# Altium footprint library jumper.PCBLIB: 40 footprints (part 2 of 3)
Each footprint in its own frame and in the unit in brackets; x right, y up, seen from the top. Pads: shape width x height; smd on the part's side, far side on the other; paste and mask are expansions set on the pad; w line width, h text height; cw(c..) or ccw(c..) is an arc to the next point about the centre after c.
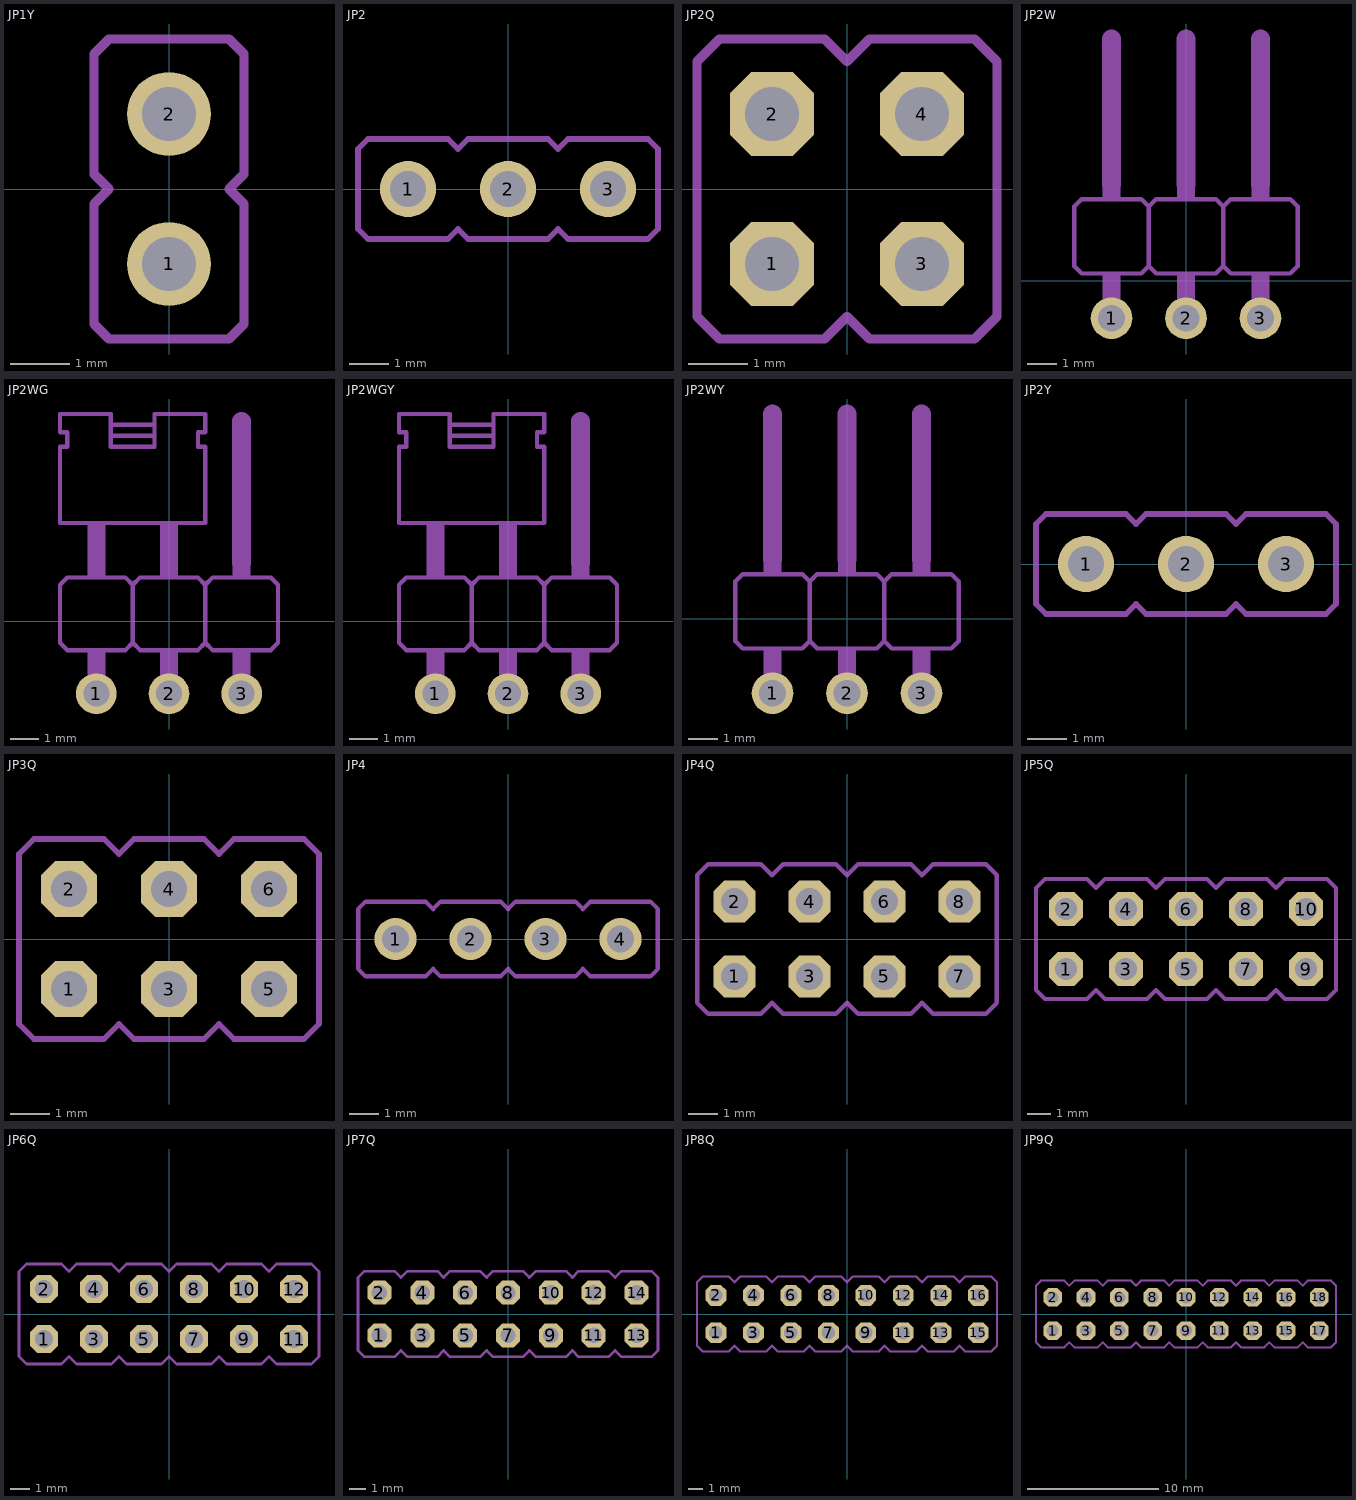
[diagram p1: the footprints below, top view; thin cyan lines are the x and y axes]

## JP1Y [mil]
pads (2):
  round 56 hole 36: 1(0,-50) 2(0,50)
tDocu:
  region: -12,38 -12,62 12,62 12,38
  region: -12,-62 -12,-38 12,-38 12,-62
  lines w6: -50,-80 -50,-20 ; -50,20 -50,80 ; 50,-80 50,-20 ; 50,20 50,80
tPlace:
  lines w6: -50,-80 -50,-90 -40,-100 40,-100 50,-90 50,-80 ; -50,-20 -50,-10 -40,0 -50,10 -50,20 ; -50,80 -50,90 -40,100 40,100 50,90 50,80 ; 50,-20 50,-10 40,0 50,10 50,20

## JP2 [mil]
pads (3):
  round 56 hole 36: 1(-100,0) 2(0,0) 3(100,0)
tDocu:
  region: -112,-12 -112,12 -88,12 -88,-12
  region: -12,-12 -12,12 12,12 12,-12
  region: 88,-12 88,12 112,12 112,-12
tPlace:
  lines w6: -150,-40 -150,40 -140,50 -60,50 -50,40 -40,50 40,50 50,40 60,50 140,50 150,40 150,-40 140,-50 60,-50 50,-40 40,-50 -40,-50 -50,-40 -60,-50 -140,-50 -150,-40
  text "1" at -100,-105 h60.45
  text "2" at 0,-105 h60.45
  text "3" at 100,-105 h60.45

## JP2Q [mil]
pads (4):
  oct 56x56 / inner round 51.74 / far side oct 56x56 hole 36: 1(-50,-50) 2(-50,50) 3(50,-50) 4(50,50)
tDocu:
  region: -62,38 -62,62 -38,62 -38,38
  region: 38,38 38,62 62,62 62,38
  region: 38,-62 38,-38 62,-38 62,-62
  region: -62,-62 -62,-38 -38,-38 -38,-62
tPlace:
  lines w6: -100,-85 -100,85 -85,100 -15,100 0,85 15,100 85,100 100,85 100,-85 85,-100 15,-100 0,-85 -15,-100 -85,-100 -100,-85
  text "1" at -70,-165 h77.5
  text "2" at 30,-165 h77.5

## JP2W [mil]
pads (3):
  round 56 hole 36: 1(-100,-50) 2(0,-50) 3(100,-50)
tDocu:
  region: 88,-60 88,-10 112,-10 112,-60
  region: -12,-60 -12,-10 12,-10 12,-60
  region: -112,-60 -112,-10 -88,-10 -88,-60
tPlace:
  region: 88,110 88,130 112,130 112,110
  region: 88,-10 88,10 112,10 112,-10
  region: -12,-10 -12,10 12,10 12,-10
  region: -112,-10 -112,10 -88,10 -88,-10
  region: -12,110 -12,130 12,130 12,110
  region: -112,110 -112,130 -88,130 -88,110
  lines w6: -50,20 -50,100 ; -50,20 -40,10 40,10 50,20 ; -50,20 -60,10 -140,10 -150,20 -150,100 -140,110 -60,110 -50,100 ; -50,100 -40,110 40,110 50,100 ; 50,20 60,10 140,10 150,20 150,100 140,110 60,110 50,100 ; 50,20 50,100
  lines w26: -100,130 -100,325 ; 0,130 0,325 ; 100,130 100,325
  text "1" at -110,50 h60.45
  text "2" at -15,50 h60.45
  text "3" at 80,50 h60.45

## JP2WG [mil]
pads (3):
  round 56 hole 36: 1(-100,-100) 2(0,-100) 3(100,-100)
tDocu:
  region: 88,-110 88,-60 112,-60 112,-110
  region: -12,-110 -12,-60 12,-60 12,-110
  region: -112,-110 -112,-60 -88,-60 -88,-110
tPlace:
  region: 88,60 88,80 112,80 112,60
  region: 88,-60 88,-40 112,-40 112,-60
  region: -12,-60 -12,-40 12,-40 12,-60
  region: -112,-60 -112,-40 -88,-40 -88,-60
  region: -12,60 -12,135 12,135 12,60
  region: -112,60 -112,135 -88,135 -88,60
  lines w6: -80,255 -20,255 ; -80,255 -80,270 ; -80,255 -80,240 -20,240 -20,255 ; -80,270 -80,285 -150,285 -150,260 -140,260 -140,240 -150,240 -150,135 50,135 50,240 40,240 40,260 50,260 50,285 -20,285 -20,270 ; -80,270 -20,270 ; -50,-30 -50,50 ; -50,-30 -40,-40 40,-40 50,-30 ; -50,-30 -60,-40 -140,-40 -150,-30 -150,50 -140,60 -60,60 -50,50 ; -50,50 -40,60 40,60 50,50 ; -20,255 -20,270 ; 50,-30 60,-40 140,-40 150,-30 150,50 140,60 60,60 50,50 ; 50,-30 50,50
  lines w26: 100,80 100,275
  text "1" at -110,0 h60.45
  text "2" at -15,0 h60.45
  text "3" at 80,0 h60.45

## JP2WGY [mil]
pads (3):
  round 56 hole 36: 1(-100,-100) 2(0,-100) 3(100,-100)
tDocu:
  region: -112,-110 -112,-40 -88,-40 -88,-110
  region: -12,-110 -12,-40 12,-40 12,-110
  region: 88,-110 88,-40 112,-40 112,-110
  lines w6: -120,-40 -80,-40 ; -20,-40 20,-40 ; 80,-40 120,-40
tPlace:
  region: 88,60 88,80 112,80 112,60
  region: -12,60 -12,135 12,135 12,60
  region: -112,60 -112,135 -88,135 -88,60
  lines w6: -120,-40 -140,-40 -150,-30 -150,50 -140,60 -60,60 -50,50 ; -80,-40 -60,-40 -50,-30 ; -20,-40 -40,-40 -50,-30 ; 20,-40 40,-40 50,-30 ; 80,-40 60,-40 50,-30 ; 120,-40 140,-40 150,-30 150,50 140,60 60,60 50,50 ; -80,255 -20,255 ; -80,255 -80,270 ; -80,255 -80,240 -20,240 -20,255 ; -80,270 -80,285 -150,285 -150,260 -140,260 -140,240 -150,240 -150,135 50,135 50,240 40,240 40,260 50,260 50,285 -20,285 -20,270 ; -80,270 -20,270 ; -50,-30 -50,50 ; -50,50 -40,60 40,60 50,50 ; -20,255 -20,270 ; 50,-30 50,50
  lines w26: 100,80 100,275
  text "1" at -110,0 h60.45
  text "2" at -15,0 h60.45
  text "3" at 80,0 h60.45

## JP2WY [mil]
pads (3):
  round 56 hole 36: 1(-100,-100) 2(0,-100) 3(100,-100)
tDocu:
  region: -112,-110 -112,-40 -88,-40 -88,-110
  region: -12,-110 -12,-40 12,-40 12,-110
  region: 88,-110 88,-40 112,-40 112,-110
  lines w6: -120,-40 -80,-40 ; -20,-40 20,-40 ; 80,-40 120,-40
tPlace:
  region: 88,60 88,80 112,80 112,60
  region: -12,60 -12,80 12,80 12,60
  region: -112,60 -112,80 -88,80 -88,60
  lines w6: -120,-40 -140,-40 -150,-30 -150,50 -140,60 -60,60 -50,50 ; -80,-40 -60,-40 -50,-30 ; -20,-40 -40,-40 -50,-30 ; 20,-40 40,-40 50,-30 ; 80,-40 60,-40 50,-30 ; 120,-40 140,-40 150,-30 150,50 140,60 60,60 50,50 ; -50,-30 -50,50 ; -50,50 -40,60 40,60 50,50 ; 50,-30 50,50
  lines w26: -100,80 -100,275 ; 0,80 0,275 ; 100,80 100,275
  text "1" at -110,0 h60.45
  text "2" at -15,0 h60.45
  text "3" at 80,0 h60.45

## JP2Y [mil]
pads (3):
  round 56 hole 36: 1(-100,0) 2(0,0) 3(100,0)
tDocu:
  region: -112,-12 -112,12 -88,12 -88,-12
  region: -12,-12 -12,12 12,12 12,-12
  region: 88,-12 88,12 112,12 112,-12
  lines w6: -130,-50 -70,-50 ; -130,50 -70,50 ; -30,-50 30,-50 ; -30,50 30,50 ; 70,-50 130,-50 ; 70,50 130,50
tPlace:
  lines w6: -130,-50 -140,-50 -150,-40 -150,40 -140,50 -130,50 ; -70,-50 -60,-50 -50,-40 -40,-50 -30,-50 ; -70,50 -60,50 -50,40 -40,50 -30,50 ; 30,-50 40,-50 50,-40 60,-50 70,-50 ; 30,50 40,50 50,40 60,50 70,50 ; 130,-50 140,-50 150,-40 150,40 140,50 130,50
  text "1" at -100,-105 h60.45
  text "2" at 0,-105 h60.45
  text "3" at 100,-105 h60.45

## JP3Q [mil]
pads (6):
  oct 56x56 / inner round 51.74 / far side oct 56x56 hole 36: 1(-100,-50) 2(-100,50) 3(0,-50) 4(0,50) 5(100,-50) 6(100,50)
tDocu:
  region: -112,38 -112,62 -88,62 -88,38
  region: -12,38 -12,62 12,62 12,38
  region: 88,38 88,62 112,62 112,38
  region: -112,-62 -112,-38 -88,-38 -88,-62
  region: -12,-62 -12,-38 12,-38 12,-62
  region: 88,-62 88,-38 112,-38 112,-62
tPlace:
  lines w6: -150,-85 -150,85 -135,100 -65,100 -50,85 -35,100 35,100 50,85 65,100 135,100 150,85 150,-85 135,-100 65,-100 50,-85 35,-100 -35,-100 -50,-85 -65,-100 -135,-100 -150,-85
  text "1" at -120,-165 h77.5
  text "2" at -20,-165 h77.5
  text "3" at 80,-165 h77.5

## JP4 [mil]
pads (4):
  round 56 hole 36: 1(-150,0) 2(-50,0) 3(50,0) 4(150,0)
tDocu:
  region: -162,-12 -162,12 -138,12 -138,-12
  region: -62,-12 -62,12 -38,12 -38,-12
  region: 38,-12 38,12 62,12 62,-12
  region: 138,-12 138,12 162,12 162,-12
tPlace:
  lines w6: -200,-40 -200,40 -190,50 -110,50 -100,40 -90,50 -10,50 0,40 10,50 90,50 100,40 110,50 190,50 200,40 200,-40 190,-50 110,-50 100,-40 90,-50 10,-50 0,-40 -10,-50 -90,-50 -100,-40 -110,-50 -190,-50 -200,-40
  text "1" at -150,-105 h60.45
  text "2" at -50,-105 h60.45
  text "3" at 50,-105 h60.45
  text "4" at 150,-105 h60.45

## JP4Q [mil]
pads (8):
  oct 56x56 / inner round 51.74 / far side oct 56x56 hole 36: 1(-150,-50) 2(-150,50) 3(-50,-50) 4(-50,50) 5(50,-50) 6(50,50) 7(150,-50) 8(150,50)
tDocu:
  region: -162,38 -162,62 -138,62 -138,38
  region: -62,38 -62,62 -38,62 -38,38
  region: 38,38 38,62 62,62 62,38
  region: 138,-62 138,-38 162,-38 162,-62
  region: -162,-62 -162,-38 -138,-38 -138,-62
  region: -62,-62 -62,-38 -38,-38 -38,-62
  region: 138,38 138,62 162,62 162,38
  region: 38,-62 38,-38 62,-38 62,-62
tPlace:
  lines w6: -200,-85 -200,85 -185,100 -115,100 -100,85 -85,100 -15,100 0,85 15,100 85,100 100,85 115,100 185,100 200,85 200,-85 185,-100 115,-100 100,-85 85,-100 15,-100 0,-85 -15,-100 -85,-100 -100,-85 -115,-100 -185,-100 -200,-85
  text "1" at -170,-165 h77.5
  text "2" at -70,-165 h77.5
  text "3" at 30,-165 h77.5
  text "4" at 130,-165 h77.5

## JP5Q [mil]
pads (10):
  oct 56x56 / inner round 51.74 / far side oct 56x56 hole 36: 1(-200,-50) 2(-200,50) 3(-100,-50) 4(-100,50) 5(0,-50) 6(0,50) 7(100,-50) 8(100,50) 9(200,-50) 10(200,50)
tDocu:
  region: -212,38 -212,62 -188,62 -188,38
  region: -112,38 -112,62 -88,62 -88,38
  region: -12,38 -12,62 12,62 12,38
  region: -212,-62 -212,-38 -188,-38 -188,-62
  region: -112,-62 -112,-38 -88,-38 -88,-62
  region: -12,-62 -12,-38 12,-38 12,-62
  region: 88,38 88,62 112,62 112,38
  region: 188,38 188,62 212,62 212,38
  region: 188,-62 188,-38 212,-38 212,-62
  region: 88,-62 88,-38 112,-38 112,-62
tPlace:
  lines w6: -250,-85 -250,85 -235,100 -165,100 -150,85 -135,100 -65,100 -50,85 -35,100 35,100 50,85 65,100 135,100 150,85 165,100 235,100 250,85 250,-85 235,-100 165,-100 150,-85 135,-100 65,-100 50,-85 35,-100 -35,-100 -50,-85 -65,-100 -135,-100 -150,-85 -165,-100 -235,-100 -250,-85
  text "1" at -220,-165 h77.5
  text "2" at -120,-165 h77.5
  text "3" at -20,-165 h77.5
  text "4" at 80,-165 h77.5
  text "5" at 180,-165 h77.5

## JP6Q [mil]
pads (12):
  oct 56x56 / inner round 51.74 / far side oct 56x56 hole 36: 1(-250,-50) 2(-250,50) 3(-150,-50) 4(-150,50) 5(-50,-50) 6(-50,50) 7(50,-50) 8(50,50) 9(150,-50) 10(150,50) 11(250,-50) 12(250,50)
tDocu:
  region: -262,38 -262,62 -238,62 -238,38
  region: -162,38 -162,62 -138,62 -138,38
  region: -62,38 -62,62 -38,62 -38,38
  region: 38,38 38,62 62,62 62,38
  region: 138,38 138,62 162,62 162,38
  region: 238,38 238,62 262,62 262,38
  region: -262,-62 -262,-38 -238,-38 -238,-62
  region: -162,-62 -162,-38 -138,-38 -138,-62
  region: -62,-62 -62,-38 -38,-38 -38,-62
  region: 38,-62 38,-38 62,-38 62,-62
  region: 138,-62 138,-38 162,-38 162,-62
  region: 238,-62 238,-38 262,-38 262,-62
tPlace:
  lines w6: -300,-85 -300,85 -285,100 -215,100 -200,85 -185,100 -115,100 -100,85 -85,100 -15,100 0,85 15,100 85,100 100,85 115,100 185,100 200,85 215,100 285,100 300,85 300,-85 285,-100 215,-100 200,-85 185,-100 115,-100 100,-85 85,-100 15,-100 0,-85 -15,-100 -85,-100 -100,-85 -115,-100 -185,-100 -200,-85 -215,-100 -285,-100 -300,-85
  text "1" at -270,-165 h77.5
  text "2" at -170,-165 h77.5
  text "3" at -70,-165 h77.5
  text "4" at 30,-165 h77.5
  text "5" at 130,-165 h77.5
  text "6" at 230,-165 h77.5

## JP7Q [mil]
pads (14):
  oct 56x56 / inner round 51.74 / far side oct 56x56 hole 36: 1(-300,-50) 2(-300,50) 3(-200,-50) 4(-200,50) 5(-100,-50) 6(-100,50) 7(0,-50) 8(0,50) 9(100,-50) 10(100,50) 11(200,-50) 12(200,50) 13(300,-50) 14(300,50)
tDocu:
  region: -312,38 -312,62 -288,62 -288,38
  region: -212,38 -212,62 -188,62 -188,38
  region: -112,38 -112,62 -88,62 -88,38
  region: -12,38 -12,62 12,62 12,38
  region: 88,38 88,62 112,62 112,38
  region: 188,38 188,62 212,62 212,38
  region: -312,-62 -312,-38 -288,-38 -288,-62
  region: -212,-62 -212,-38 -188,-38 -188,-62
  region: -112,-62 -112,-38 -88,-38 -88,-62
  region: -12,-62 -12,-38 12,-38 12,-62
  region: 88,-62 88,-38 112,-38 112,-62
  region: 188,-62 188,-38 212,-38 212,-62
  region: 288,38 288,62 312,62 312,38
  region: 288,-62 288,-38 312,-38 312,-62
tPlace:
  lines w6: -350,-85 -350,85 -335,100 -265,100 -250,85 -235,100 -165,100 -150,85 -135,100 -65,100 -50,85 -35,100 35,100 50,85 65,100 135,100 150,85 165,100 235,100 250,85 265,100 335,100 350,85 350,-85 335,-100 265,-100 250,-85 235,-100 165,-100 150,-85 135,-100 65,-100 50,-85 35,-100 -35,-100 -50,-85 -65,-100 -135,-100 -150,-85 -165,-100 -235,-100 -250,-85 -265,-100 -335,-100 -350,-85
  text "1" at -320,-165 h77.5
  text "2" at -220,-165 h77.5
  text "3" at -120,-165 h77.5
  text "4" at -20,-165 h77.5
  text "5" at 80,-165 h77.5
  text "6" at 180,-165 h77.5
  text "7" at 280,-165 h77.5

## JP8Q [mil]
pads (16):
  oct 56x56 / inner round 51.74 / far side oct 56x56 hole 36: 1(-350,-50) 2(-350,50) 3(-250,-50) 4(-250,50) 5(-150,-50) 6(-150,50) 7(-50,-50) 8(-50,50) 9(50,-50) 10(50,50) 11(150,-50) 12(150,50) 13(250,-50) 14(250,50) 15(350,-50) 16(350,50)
tDocu:
  region: -362,38 -362,62 -338,62 -338,38
  region: -262,38 -262,62 -238,62 -238,38
  region: -162,38 -162,62 -138,62 -138,38
  region: -62,38 -62,62 -38,62 -38,38
  region: 38,38 38,62 62,62 62,38
  region: 138,38 138,62 162,62 162,38
  region: 238,38 238,62 262,62 262,38
  region: 338,38 338,62 362,62 362,38
  region: -362,-62 -362,-38 -338,-38 -338,-62
  region: -262,-62 -262,-38 -238,-38 -238,-62
  region: -162,-62 -162,-38 -138,-38 -138,-62
  region: -62,-62 -62,-38 -38,-38 -38,-62
  region: 38,-62 38,-38 62,-38 62,-62
  region: 138,-62 138,-38 162,-38 162,-62
  region: 238,-62 238,-38 262,-38 262,-62
  region: 338,-62 338,-38 362,-38 362,-62
tPlace:
  lines w6: -400,-85 -400,85 -385,100 -315,100 -300,85 -285,100 -215,100 -200,85 -185,100 -115,100 -100,85 -85,100 -15,100 0,85 15,100 85,100 100,85 115,100 185,100 200,85 215,100 285,100 300,85 315,100 385,100 400,85 400,-85 385,-100 315,-100 300,-85 285,-100 215,-100 200,-85 185,-100 115,-100 100,-85 85,-100 15,-100 0,-85 -15,-100 -85,-100 -100,-85 -115,-100 -185,-100 -200,-85 -215,-100 -285,-100 -300,-85 -315,-100 -385,-100 -400,-85
  text "1" at -370,-165 h77.5
  text "2" at -270,-165 h77.5
  text "3" at -170,-165 h77.5
  text "4" at -70,-165 h77.5
  text "5" at 30,-165 h77.5
  text "6" at 130,-165 h77.5
  text "7" at 230,-165 h77.5
  text "8" at 330,-165 h77.5

## JP9Q [mil]
pads (18):
  oct 56x56 / inner round 51.74 / far side oct 56x56 hole 36: 1(-400,-50) 2(-400,50) 3(-300,-50) 4(-300,50) 5(-200,-50) 6(-200,50) 7(-100,-50) 8(-100,50) 9(0,-50) 10(0,50) 11(100,-50) 12(100,50) 13(200,-50) 14(200,50) 15(300,-50) 16(300,50) 17(400,-50) 18(400,50)
tDocu:
  region: -412,38 -412,62 -388,62 -388,38
  region: -312,38 -312,62 -288,62 -288,38
  region: -212,38 -212,62 -188,62 -188,38
  region: -112,38 -112,62 -88,62 -88,38
  region: -12,38 -12,62 12,62 12,38
  region: 88,38 88,62 112,62 112,38
  region: 188,38 188,62 212,62 212,38
  region: 288,38 288,62 312,62 312,38
  region: 388,38 388,62 412,62 412,38
  region: -412,-62 -412,-38 -388,-38 -388,-62
  region: -312,-62 -312,-38 -288,-38 -288,-62
  region: -212,-62 -212,-38 -188,-38 -188,-62
  region: -112,-62 -112,-38 -88,-38 -88,-62
  region: -12,-62 -12,-38 12,-38 12,-62
  region: 88,-62 88,-38 112,-38 112,-62
  region: 188,-62 188,-38 212,-38 212,-62
  region: 288,-62 288,-38 312,-38 312,-62
  region: 388,-62 388,-38 412,-38 412,-62
tPlace:
  lines w6: -450,-85 -450,85 -435,100 -365,100 -350,85 -335,100 -265,100 -250,85 -235,100 -165,100 -150,85 -135,100 -65,100 -50,85 -35,100 35,100 50,85 65,100 135,100 150,85 165,100 235,100 250,85 265,100 335,100 350,85 365,100 435,100 450,85 450,-85 435,-100 365,-100 350,-85 335,-100 265,-100 250,-85 235,-100 165,-100 150,-85 135,-100 65,-100 50,-85 35,-100 -35,-100 -50,-85 -65,-100 -135,-100 -150,-85 -165,-100 -235,-100 -250,-85 -265,-100 -335,-100 -350,-85 -365,-100 -435,-100 -450,-85
  text "1" at -420,-165 h77.5
  text "2" at -320,-165 h77.5
  text "3" at -220,-165 h77.5
  text "4" at -120,-165 h77.5
  text "5" at -20,-165 h77.5
  text "6" at 80,-165 h77.5
  text "7" at 180,-165 h77.5
  text "8" at 280,-165 h77.5
  text "9" at 380,-165 h77.5